# Altium footprint library pui-speakers.PcbLib: 1 footprints
Each footprint in its own frame and in the unit in brackets; x right, y up, seen from the top. Pads: shape width x height; smd on the part's side, far side on the other; paste and mask are expansions set on the pad; w line width, h text height; cw(c..) or ccw(c..) is an arc to the next point about the centre after c.
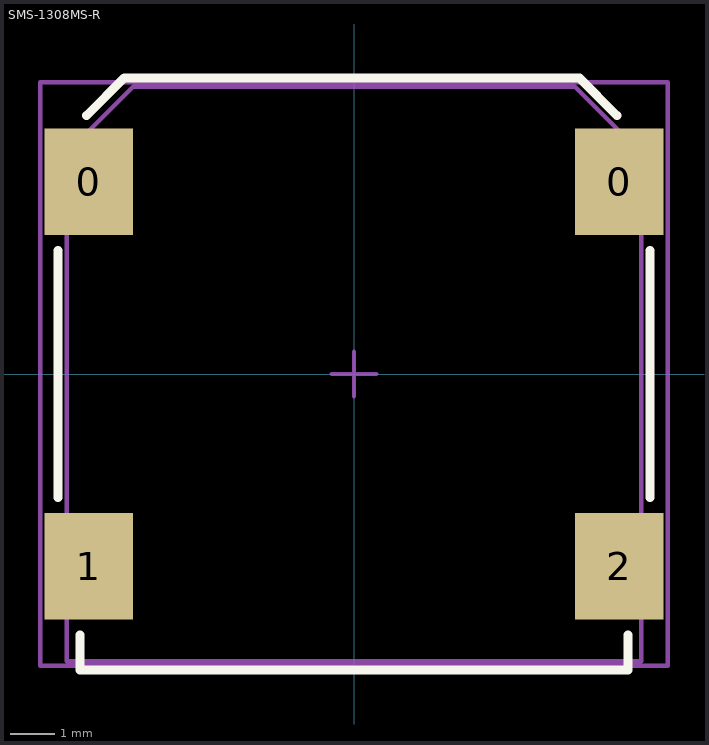
[diagram p0: the footprint, top view; thin cyan lines are the x and y axes]

## SMS-1308MS-R [mm] "Loudspeaker 13mm X 13mm SMT"
height 4
pads (4):
  rect 2x2.4 smd: 0(-6,4.35) 0(6,4.35) 1(-6,-4.35) 2(6,-4.35)
Top Overlay:
  lines w0.2: -6.7,-2.8 -6.7,2.8 ; -6.2,-5.9 -6.2,-6.7 6.2,-6.7 6.2,-5.9 ; -6.05,5.85 -5.2,6.7 5.1,6.7 5.95,5.85 ; 6.7,-2.8 6.7,2.8
Mechanical 13:
  lines w0.1: -0.5,0 0.5,0 ; 0,-0.5 0,0.5 ; -6.5,-6.5 -6.5,5 -6.45,5.05 -5,6.5 5,6.5 6.5,5 6.5,-6.5 -6.5,-6.5
Mechanical 15:
  lines w0.1: -7.1,-6.6 7.1,-6.6 7.1,6.6 -7.1,6.6 -7.1,-6.6
  text ".Designator" at -1.6,-1.5 h0.5
3D body: height 4, standoff 0, extent -6.5,-6.5 6.5,6.5